# Altium schematic symbol library BFR380L3.SchLib: 1 symbol
Pins are listed as number, name and electrical type; pins without a type are passive.

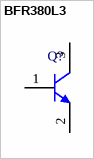
[diagram p0: symbol BFR380L3]

## BFR380L3
designator Q?
NPN Silicon RF Transistor, 6 V VCEO, 80 mA IC, 13.5 dB Gmax, TSLP-3-1, Green; Manufacturer: Infineon; PartNumber: BFR380L3; Gmax (typ): 13.5 dB; Green: yes; Group: Si transistors with high gain up to 2.5 GHz; IC (max): 80 mA; NFmin (typ): 1.1 dB; Ptot (max): 380.0 mW; VCEO (max): 6 V; DatasheetVersion: ########; PackageReference: TSLP-3-1; PackageDescription: 3-Pin Thin Small Leadless Package, 0.6 x 1 mm Body; Supplier 1: Mouser; Supplier Part Number 1: N/A; Halogen-free: yes; Mounting Technology: Surface Mount; ComponentLink1Description: Manufacturer URL; ComponentLink1URL: http://www.infineon.com/; ComponentLink2Description: Datasheet; ComponentLink2URL: http://www.infineon.com/dgdl/bfr380l3.pdf?folderId=db3a30431400ef68011425b2dfaf05c6&fileId=db3a30431400ef6801142725593e06e5&location=en.Products.RF.RF_Transistors_.High_Linearity_Si-_and_SiGe_C-Transistors_for_use_up_to_6_GHz.DATASHEET.bfr380l3.pdf; ComponentLink3Description: Package Specification; ComponentLink3URL: http://www.infineon.com/dgdl/TSLP-3-1-Package_Overview.pdf?folderId=db3a30431936bc4b011957434db737d2&fileId=db3a30431936bc4b0119577ed2783818
footprint INF-TSLP-3-1_V (TSLP, 3-Leads, Body 0.6x1 mm)
pins: 1 B, 2 E, 3 C